# EAGLE library part TLE4207G (library infineon)
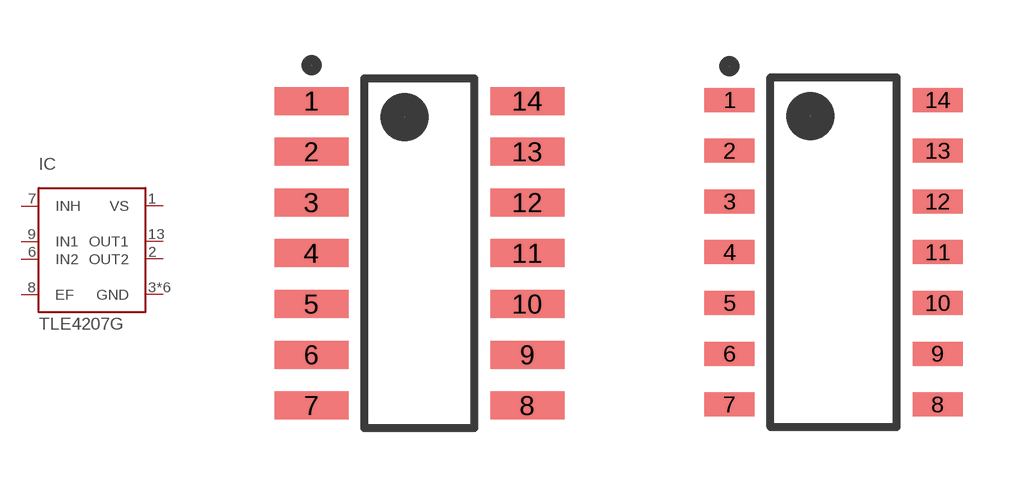
[diagram p4: symbol with the pads of INF-PG-DSO-14-22_M_1PRIMARY; footprints INF-PG-DSO-14-22_M_1PRIMARY, INF-PG-DSO-14-22_L_1PRIMARY]

Designator prefix IC

## TLE4207GM  [INF-PG-DSO-14-22_M_1PRIMARY]
1  VS
2  OUT2
3  GND
4  GND
5  GND
6  IN2
7  INH
8  EF
9  IN1
10  GND
11  GND
12  GND
13  OUT1

## TLE4207GL  [INF-PG-DSO-14-22_L_1PRIMARY]
Pads as for INF-PG-DSO-14-22_M_1PRIMARY

## TLE4207GN  [INF-PG-DSO-14-22_N_1PRIMARY]
Pads as for INF-PG-DSO-14-22_M_1PRIMARY

## Footprint INF-PG-DSO-14-22_M_1PRIMARY (pad centres in mm)
Original name INF-PG-DSO-14-22_M
smd 1.85 x 0.7: 1 -2.7,3.81; 2 -2.7,2.54; 3 -2.7,1.27; 4 -2.7,0; 5 -2.7,-1.27; 6 -2.7,-2.54; 7 -2.7,-3.81; 8 2.7,-3.81; 9 2.7,-2.54; 10 2.7,-1.27; 11 2.7,0; 12 2.7,1.27; 13 2.7,2.54; 14 2.7,3.81

## Footprint INF-PG-DSO-14-22_L_1PRIMARY (pad centres in mm)
Original name INF-PG-DSO-14-22_L
smd 1.25 x 0.6: 1 -2.6,3.81; 2 -2.6,2.54; 3 -2.6,1.27; 4 -2.6,0; 5 -2.6,-1.27; 6 -2.6,-2.54; 7 -2.6,-3.81; 8 2.6,-3.81; 9 2.6,-2.54; 10 2.6,-1.27; 11 2.6,0; 12 2.6,1.27; 13 2.6,2.54; 14 2.6,3.81

## Footprint INF-PG-DSO-14-22_N_1PRIMARY (pad centres in mm)
Original name INF-PG-DSO-14-22_N
smd 1.55 x 0.6: 1 -2.65,3.81; 2 -2.65,2.54; 3 -2.65,1.27; 4 -2.65,0; 5 -2.65,-1.27; 6 -2.65,-2.54; 7 -2.65,-3.81; 8 2.65,-3.81; 9 2.65,-2.54; 10 2.65,-1.27; 11 2.65,0; 12 2.65,1.27; 13 2.65,2.54; 14 2.65,3.81